# EAGLE library part LM339 (library CharlieCreations)
Low Power, Low Offset, Quad Comparator
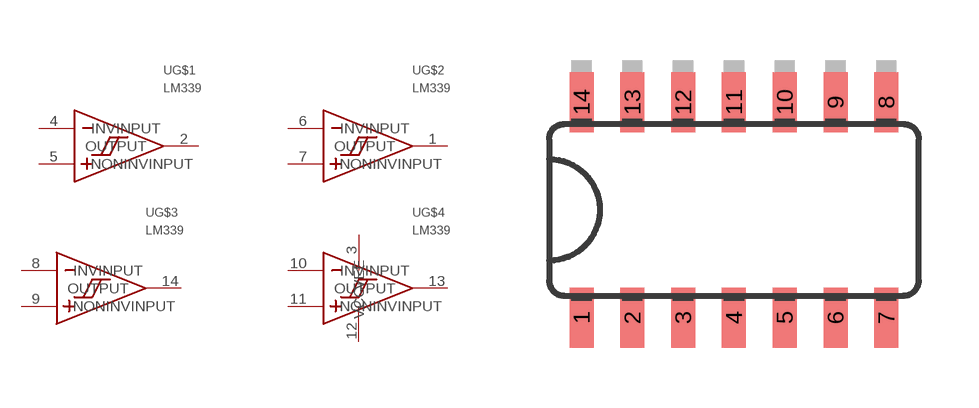
[diagram p11: symbol with the pads of SOIC14; footprint SOIC14]

Designator prefix -; gates G$1=COMPARATOR G$2=COMPARATOR G$3=COMPARATOR G$4=COMPARATORWITHPOWER

## LM339  [SOIC14]
1  G$2:OUTPUT
2  G$1:OUTPUT
3  G$4:VCC  pwr
4  G$1:INVINPUT
5  G$1:NONINVINPUT
6  G$2:INVINPUT
7  G$2:NONINVINPUT
8  G$3:INVINPUT
9  G$3:NONINVINPUT
10  G$4:INVINPUT
11  G$4:NONINVINPUT
12  G$4:VEE  pwr
13  G$4:OUTPUT
14  G$3:OUTPUT

## Footprint SOIC14 (pad centres in mm)
smd 0.599 x 1.501: 1 -3.175,-2.692; 2 -1.905,-2.692; 3 -0.635,-2.692; 4 0.635,-2.692; 5 1.905,-2.692; 6 3.175,-2.692; 7 4.445,-2.692; 8 4.445,2.692; 9 3.175,2.692; 10 1.905,2.692; 11 0.635,2.692; 12 -0.635,2.692; 13 -1.905,2.692; 14 -3.175,2.692